# EAGLE library part NETZER (library Netzer)
Netzer from MoBaCon The tiny ethernet module with common serial interfaces like UART, SPI or I2C and a few GPIOs.
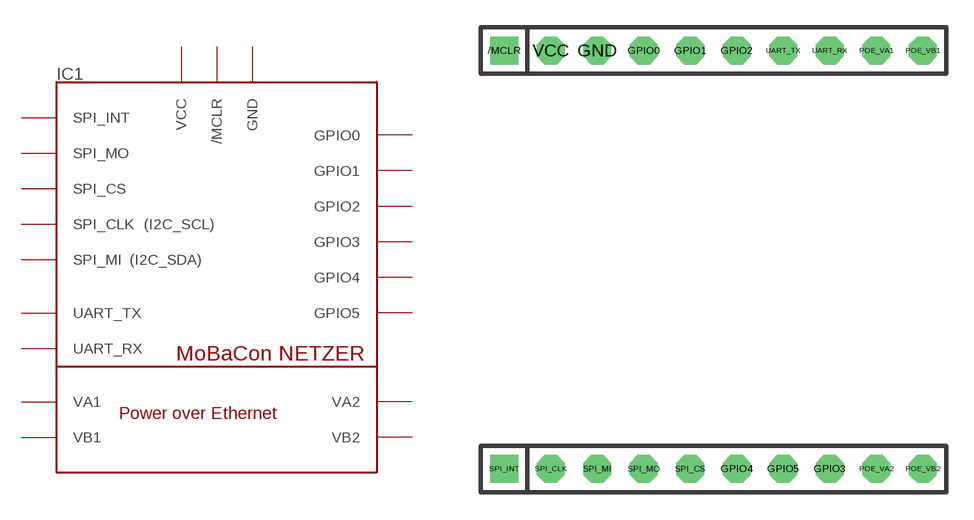
[diagram p0: symbol with the pads of NETZER; footprint NETZER]

Designator prefix IC1

## NETZER  [NETZER]
/MCLR  /MCLR
GND  GND
GPIO0  GPIO0
GPIO1  GPIO1
GPIO2  GPIO2
GPIO3  GPIO3
GPIO4  GPIO4
GPIO5  GPIO5
POE_VA1  VA1
POE_VA2  VA2
POE_VB1  VB1
POE_VB2  VB2
SPI_CLK  SPI_CLK
SPI_CS  SPI_CS
SPI_INT  SPI_INT
SPI_MI  SPI_MI
SPI_MO  SPI_MO
UART_RX  UART_RX
UART_TX  UART_TX
VCC  VCC

## Footprint NETZER (pad centres in mm)
Netzer as complete package for Netzer based designs Consists of two 10 pol 2.54 mm pin headers.
drill 1.016 square: /MCLR -11.43,22.86; SPI_INT -11.43,0
drill 1.016 octagon: GND -6.35,22.86; GPIO0 -3.81,22.86; GPIO1 -1.27,22.86; GPIO2 1.27,22.86; GPIO3 6.35,0; GPIO4 1.27,0; GPIO5 3.81,0; POE_VA1 8.89,22.86; POE_VA2 8.89,0; POE_VB1 11.43,22.86; POE_VB2 11.43,0; SPI_CLK -8.89,0; SPI_CS -1.27,0; SPI_MI -6.35,0; SPI_MO -3.81,0; UART_RX 6.35,22.86; UART_TX 3.81,22.86; VCC -8.89,22.86